# Altium footprint library 47nF_2kV.PcbLib: 1 footprints
Each footprint in its own frame and in the unit in brackets; x right, y up, seen from the top. Pads: shape width x height; smd on the part's side, far side on the other; paste and mask are expansions set on the pad; w line width, h text height; cw(c..) or ccw(c..) is an arc to the next point about the centre after c.
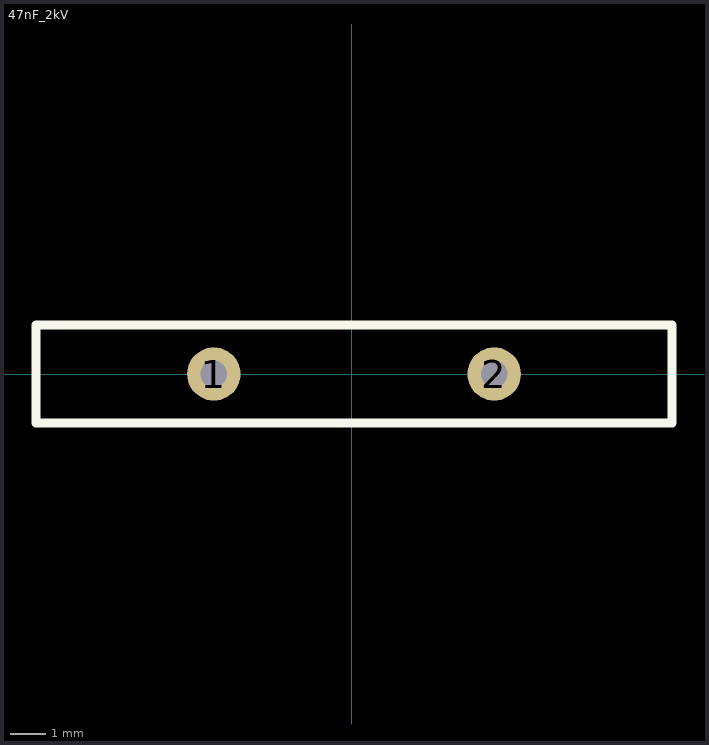
[diagram p0: the footprint, top view; thin cyan lines are the x and y axes]

## 47nF_2kV [mil]
pads (2):
  round 60 hole 30: 1(-155,0) 2(160,0)
Top Overlay:
  lines w10: -355,-55 360,-55 360,55 -355,55 -355,-55
3D body "Hitano 47nF 2kV (D18.2mm).STEP": height 829.11, standoff -133.61, extent -356.67,-54.13 356.67,54.13